# Altium schematic symbol library ATmega16u4.SchLib: 1 symbol
Pins are listed as number, name and electrical type; pins without a type are passive.

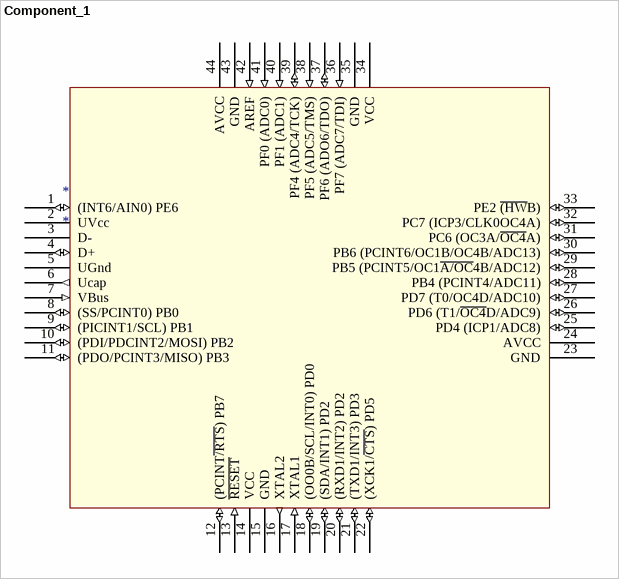
[diagram p0: symbol Component_1]

## Component_1
designator *
pins: 1 (INT6/AIN0) PE6 (io), 2 UVcc (power), 3 D- (power), 4 D+ (io), 5 UGnd (power), 6 Ucap (out), 7 VBus (in), 8 (SS/PCINT0) PB0 (io), 9 (PICINT1/SCL) PB1 (io), 10 (PDI/PDCINT2/MOSI) PB2 (io), 11 (PDO/PCINT3/MISO) PB3 (io), 12 (PCINT~{/RTS}) PB7 (io), 13 ~{RESET} (in), 14 VCC (power), 15 GND (power), 16 XTAL2 (out), 17 XTAL1 (in), 18 (OO0B/SCL/INT0) PD0 (io), 19 (SDA/INT1) PD2 (io), 20 (RXD1/INT2) PD2 (io), 21 (TXD1/INT3) PD3 (io), 22 (XCK1/~{CTS}) PD5 (io), 23 GND (power), 24 AVCC (power), 25 PD4 (ICP1/ADC8) (io), 26 PD6 (T1/~{OC4}D/ADC9) (io), 27 PD7 (T0/OC4D/ADC10) (io), 28 PB4 (PCINT4/ADC11) (io), 29 PB5 (PCINT5/OC1~{A/OC}4B/ADC12) (io), 30 PB6 (PCINT6/OC1B/OC4B/ADC13) (io), 31 PC6 (OC3A/~{OC4}A) (io), 32 PC7 (ICP3/CLK0OC4A) (io), 33 PE2 ~{(HW}B) (io), 34 VCC (power), 35 GND (power), 36 PF7 (ADC7/TDI) (in), 37 PF6 (ADO6/TDO) (io), 38 PF5 (ADC5/TMS) (in), 39 PF4 (ADC4/TCK) (io), 40 PF1 (ADC1) (in), 41 PF0 (ADC0) (in), 42 AREF (in), 43 GND (power), 44 AVCC (power)